# Altium footprint library LED.PcbLib: 2 footprints
Each footprint in its own frame and in the unit in brackets; x right, y up, seen from the top. Pads: shape width x height; smd on the part's side, far side on the other; paste and mask are expansions set on the pad; w line width, h text height; cw(c..) or ccw(c..) is an arc to the next point about the centre after c.
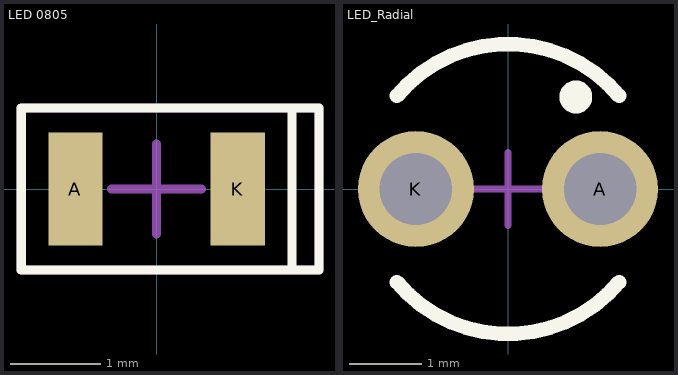
[diagram p0: the footprints below, top view; thin cyan lines are the x and y axes]

## LED 0805 [mm]
pads (2):
  rect 0.6x1.25 smd: A(-0.9,0) K(0.9,0)
Top Overlay:
  lines w0.1: 1.5,-0.9 1.5,0.9 ; -1.5,-0.9 1.8,-0.9 1.8,0.9 -1.5,0.9 -1.5,-0.9
Top Courtyard (Mech15):
  lines w0.1: -0.5,0 0.5,0 ; 0,-0.5 0,0.5 ; -1.5,-0.9 1.8,-0.9 1.8,0.9 -1.5,0.9 -1.5,-0.9
  text "Cathode" at 2.25,0.95 h0.3
  text "'.Designator'" at -1.26,0.707 h0.2
3D body "LED SMD 0805.step": height 1, standoff 0, extent -1,-0.625 1,0.625

## LED_Radial [mm] "LED; 2 Leads"
pads (2):
  round 1.6 hole 1: A(1.27,0) K(-1.27,0)
Top Overlay:
  circle w0.254: c0.935,1.27 r0.1
  circle w0.254: c0.935,1.27 r0.1
  lines w0.1: -1.532,-1.286 ccw(c0,0) 1.532,-1.286 ; -1.532,1.286 cw(c0,0) 1.532,1.286
  lines w0.2: -1.532,-1.286 ccw(c0,0) 1.532,-1.286 ; -1.532,1.286 cw(c0,0) 1.532,1.286
Top Courtyard (Mech15):
  lines w0.1: -0.5,0 0.5,0 ; 0,-0.5 0,0.5
  text "'.Designator'" at -2.413,0.762 h1
3D body "LED 3mm Green 3mm Leads.step": height 5.39, standoff -3.74, extent -1.925,-1.924 1.52,1.924